# Altium schematic symbol library PGA2505.SchLib: 1 symbol
Pins are listed as number, name and electrical type; pins without a type are passive.

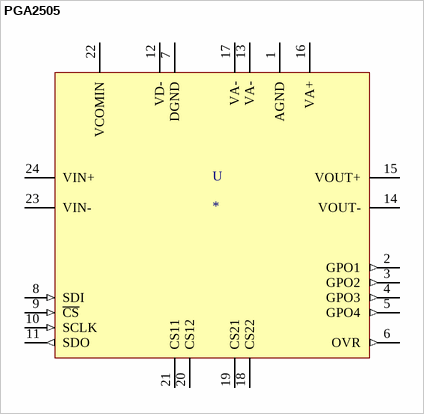
[diagram p0: symbol PGA2505]

## PGA2505
designator U
IC, MICROPHONE AMP, 24TSSOP; farnell: 1735567
footprint SOP65P780X200-24N (SOP, 24-Leads, Body 8.5x5.6mm (max), Pitch 0.65mm, IPC Medium Density)
pins: 1 AGND (power), 2 GPO1 (out), 3 GPO2 (out), 4 GPO3 (out), 5 GPO4 (out), 6 OVR (out), 7 DGND (power), 8 SDI (in), 9 ~{CS} (in), 10 SCLK (in), 11 SDO (out), 12 VD- (power), 13 VA- (power), 14 VOUT-, 15 VOUT+, 16 VA+ (power), 17 VA- (power), 18 CS22, 19 CS21, 20 CS12, 21 CS11, 22 VCOMIN (power), 23 VIN-, 24 VIN+